# EAGLE library part 45558-0003 (library parts)
Mini-Fit® Jr™ 45558 6 Positions Header, Shrouded Connector 0.165" (4.20mm) Through Hole, Right Angle Tin
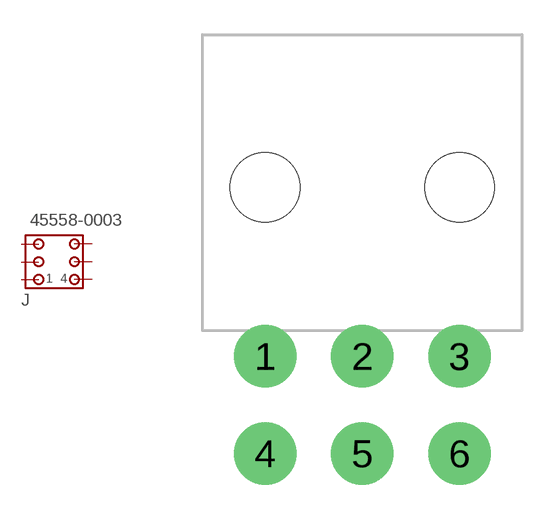
[diagram p1: symbol with the pads of 45558-0003; footprint 45558-0003]

Designator prefix J

## 45558-0003  [45558-0003]
1  1  pas
2  2  pas
3  3  pas
4  4  pas
5  5  pas
6  6  pas

## Footprint 45558-0003 (pad centres in mm)
drill 1.8: 1 -4.2,0; 2 0,0; 3 4.2,0; 4 -4.2,-4.2; 5 0,-4.2; 6 4.2,-4.2
hole 3 at 4.2,7.3
hole 3 at -4.2,7.3